# Altium footprint library CONV_I7C4W012A050V-001-R.PcbLib: 1 footprints
Each footprint in its own frame and in the unit in brackets; x right, y up, seen from the top. Pads: shape width x height; smd on the part's side, far side on the other; paste and mask are expansions set on the pad; w line width, h text height; cw(c..) or ccw(c..) is an arc to the next point about the centre after c.
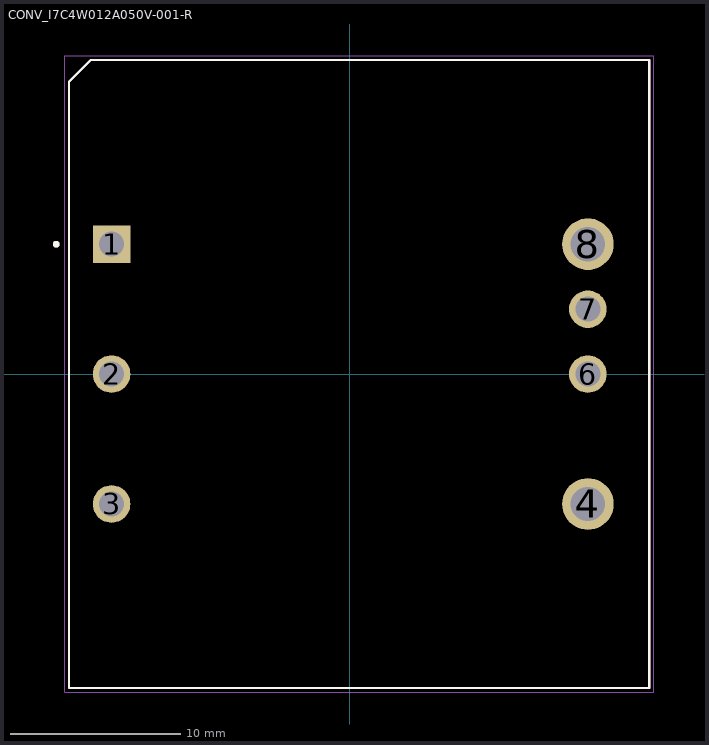
[diagram p0: the footprint, top view; thin cyan lines are the x and y axes]

## CONV_I7C4W012A050V-001-R [mm]
height 12.7
pads (7):
  rect 2.205x2.205 / inner round 2.205 / far side rect 2.205x2.205 hole 1.47: 1(-13.97,7.615)
  round 2.205 hole 1.47: 2(-13.97,-0.005) 3(-13.97,-7.625) 6(13.97,-0.005) 7(13.97,3.805)
  round 3.03 hole 2.02: 4(13.97,-7.625) 8(13.97,7.615)
Top Overlay:
  circle w0.2: c-17.22,7.615 r0.1
  lines w0.127: -16.47,-18.415 17.57,-18.415 17.57,18.415 -15.2,18.415 -16.47,17.145 -16.47,-18.415
Mechanical 13:
  circle w0.2: c-17.22,7.615 r0.1
  lines w0.127: -16.47,-18.415 17.57,-18.415 17.57,18.415 -15.2,18.415 -16.47,17.145 -16.47,-18.415
Mechanical 15:
  lines w0.05: -16.72,-18.665 17.82,-18.665 17.82,18.665 -16.72,18.665 -16.72,-18.665
3D body "step_temp.STEP": height 12.7, standoff -3.68, extent -17.018,-18.415 17.018,18.415